# EAGLE library part 1296-T90 (library con-leotronics)
1.27mm SINGLE ROW FEMALE SOCKET Source: http://www.leotronics.co.uk/Conexcon/Data%20Sheets/sec.%20A/1296ing.pdf
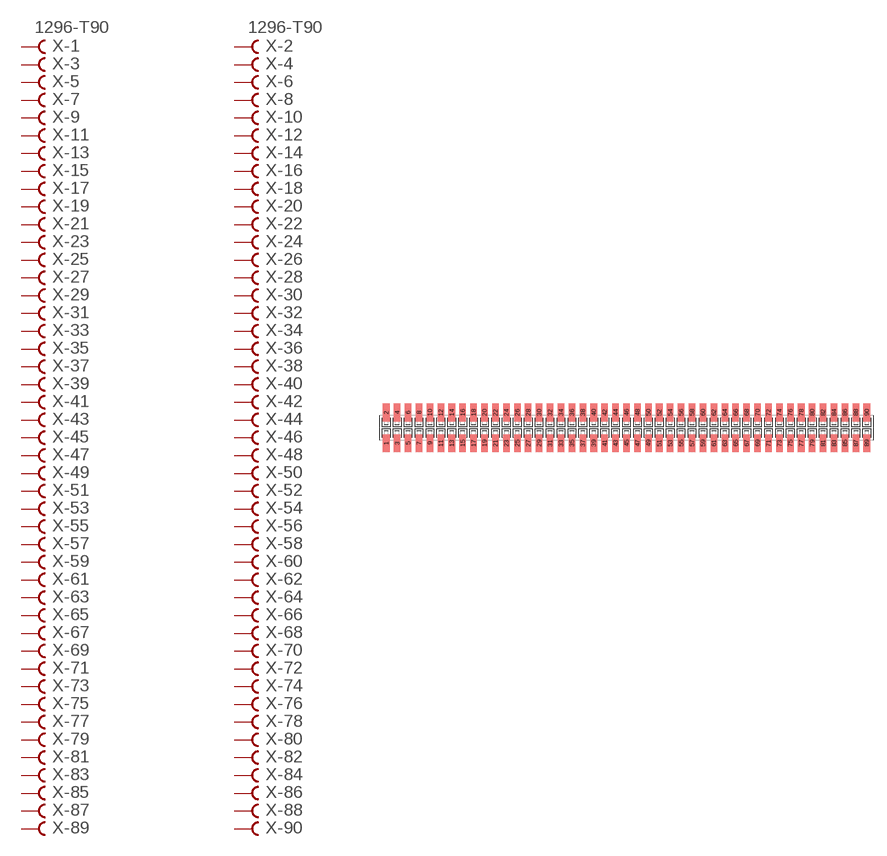
[diagram p83: symbol with the pads of 1296-90; footprint 1296-90]

Designator prefix X; gates -1=FVAL -2=FVAL -3=F -4=F -5=F -6=F -7=F -8=F -9=F -10=F -11=F -12=F -13=F -14=F -15=F -16=F -17=F -18=F -19=F -20=F -21=F -22=F -23=F -24=F -25=F -26=F -27=F -28=F -29=F -30=F -31=F -32=F -33=F -34=F -35=F -36=F -37=F -38=F -39=F -40=F -41=F -42=F -43=F -44=F -45=F -46=F -47=F -48=F -49=F -50=F -51=F -52=F -53=F -54=F -55=F -56=F -57=F -58=F -59=F -60=F -61=F -62=F -63=F -64=F -65=F -66=F -67=F -68=F -69=F -70=F -71=F -72=F -73=F -74=F -75=F -76=F -77=F -78=F -79=F -80=F -81=F -82=F -83=F -84=F -85=F -86=F -87=F -88=F -89=F -90=F

## 1296-T90 (OC_FARNELL: unknown; OC_NEWARK: unknown)  [1296-90]
1  -1:B  pas
2  -2:B  pas
3  -3:B  pas
4  -4:B  pas
5  -5:B  pas
6  -6:B  pas
7  -7:B  pas
8  -8:B  pas
9  -9:B  pas
10  -10:B  pas
11  -11:B  pas
12  -12:B  pas
13  -13:B  pas
14  -14:B  pas
15  -15:B  pas
16  -16:B  pas
17  -17:B  pas
18  -18:B  pas
19  -19:B  pas
20  -20:B  pas
21  -21:B  pas
22  -22:B  pas
23  -23:B  pas
24  -24:B  pas
25  -25:B  pas
26  -26:B  pas
27  -27:B  pas
28  -28:B  pas
29  -29:B  pas
30  -30:B  pas
31  -31:B  pas
32  -32:B  pas
33  -33:B  pas
34  -34:B  pas
35  -35:B  pas
36  -36:B  pas
37  -37:B  pas
38  -38:B  pas
39  -39:B  pas
40  -40:B  pas
41  -41:B  pas
42  -42:B  pas
43  -43:B  pas
44  -44:B  pas
45  -45:B  pas
46  -46:B  pas
47  -47:B  pas
48  -48:B  pas
49  -49:B  pas
50  -50:B  pas
51  -51:B  pas
52  -52:B  pas
53  -53:B  pas
54  -54:B  pas
55  -55:B  pas
56  -56:B  pas
57  -57:B  pas
58  -58:B  pas
59  -59:B  pas
60  -60:B  pas
61  -61:B  pas
62  -62:B  pas
63  -63:B  pas
64  -64:B  pas
65  -65:B  pas
66  -66:B  pas
67  -67:B  pas
68  -68:B  pas
69  -69:B  pas
70  -70:B  pas
71  -71:B  pas
72  -72:B  pas
73  -73:B  pas
74  -74:B  pas
75  -75:B  pas
76  -76:B  pas
77  -77:B  pas
78  -78:B  pas
79  -79:B  pas
80  -80:B  pas
81  -81:B  pas
82  -82:B  pas
83  -83:B  pas
84  -84:B  pas
85  -85:B  pas
86  -86:B  pas
87  -87:B  pas
88  -88:B  pas
89  -89:B  pas
90  -90:B  pas

## Footprint 1296-90 (pad centres in mm)
1.27mm SINGLE ROW FEMALE SOCKET Source: http://www.leotronics.co.uk/Conexcon/Data%20Sheets/sec.%20A/1296ing.pdf
smd 0.76 x 2.05: 1 -27.94,-1.78; 2 -27.94,1.78; 3 -26.67,-1.78; 4 -26.67,1.78; 5 -25.4,-1.78; 6 -25.4,1.78; 7 -24.13,-1.78; 8 -24.13,1.78; 9 -22.86,-1.78; 10 -22.86,1.78; 11 -21.59,-1.78; 12 -21.59,1.78; 13 -20.32,-1.78; 14 -20.32,1.78; 15 -19.05,-1.78; 16 -19.05,1.78; 17 -17.78,-1.78; 18 -17.78,1.78; 19 -16.51,-1.78; 20 -16.51,1.78; 21 -15.24,-1.78; 22 -15.24,1.78; 23 -13.97,-1.78; 24 -13.97,1.78; 25 -12.7,-1.78; 26 -12.7,1.78; 27 -11.43,-1.78; 28 -11.43,1.78; 29 -10.16,-1.78; 30 -10.16,1.78; 31 -8.89,-1.78; 32 -8.89,1.78; 33 -7.62,-1.78; 34 -7.62,1.78; 35 -6.35,-1.78; 36 -6.35,1.78; 37 -5.08,-1.78; 38 -5.08,1.78; 39 -3.81,-1.78; 40 -3.81,1.78; 41 -2.54,-1.78; 42 -2.54,1.78; 43 -1.27,-1.78; 44 -1.27,1.78; 45 0,-1.78; 46 0,1.78; 47 1.27,-1.78; 48 1.27,1.78; 49 2.54,-1.78; 50 2.54,1.78; 51 3.81,-1.78; 52 3.81,1.78; 53 5.08,-1.78; 54 5.08,1.78; 55 6.35,-1.78; 56 6.35,1.78; 57 7.62,-1.78; 58 7.62,1.78; 59 8.89,-1.78; 60 8.89,1.78; 61 10.16,-1.78; 62 10.16,1.78; 63 11.43,-1.78; 64 11.43,1.78; 65 12.7,-1.78; 66 12.7,1.78; 67 13.97,-1.78; 68 13.97,1.78; 69 15.24,-1.78; 70 15.24,1.78; 71 16.51,-1.78; 72 16.51,1.78; 73 17.78,-1.78; 74 17.78,1.78; 75 19.05,-1.78; 76 19.05,1.78; 77 20.32,-1.78; 78 20.32,1.78; 79 21.59,-1.78; 80 21.59,1.78; 81 22.86,-1.78; 82 22.86,1.78; 83 24.13,-1.78; 84 24.13,1.78; 85 25.4,-1.78; 86 25.4,1.78; 87 26.67,-1.78; 88 26.67,1.78; 89 27.94,-1.78; 90 27.94,1.78